# EAGLE library part ICE40 (library TImingBoardPartLibrary)
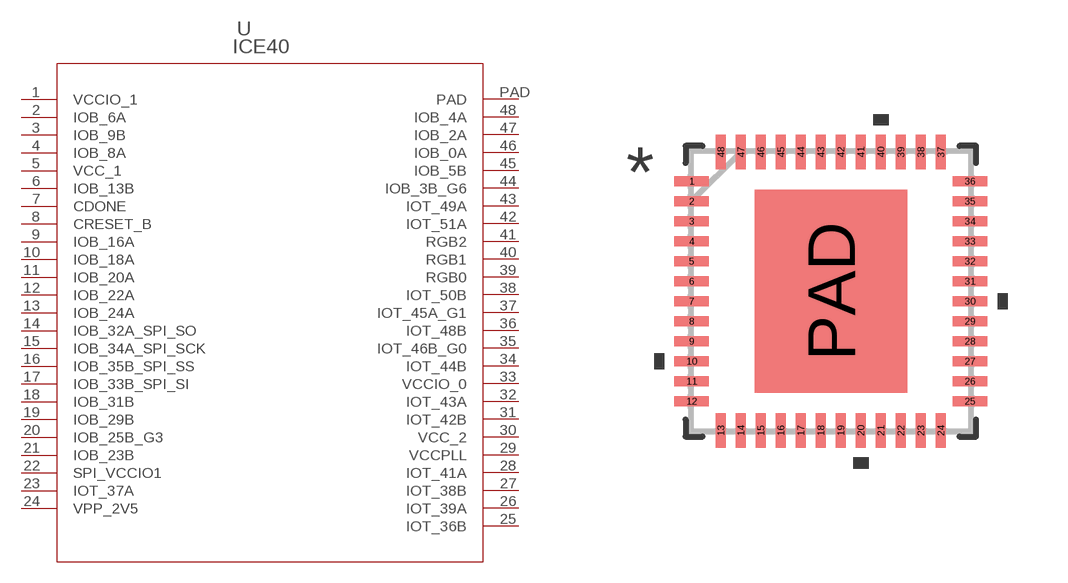
[diagram p1: symbol with the pads of ICE40-QFN; footprint ICE40-QFN]

Designator prefix -

## ICE40 (LCSC: C2678152)  [ICE40-QFN]
1  VCCIO_1  pwr
2  IOB_6A
3  IOB_9B
4  IOB_8A
5  VCC_1  pwr
6  IOB_13B
7  CDONE
8  CRESET_B  pas
9  IOB_16A
10  IOB_18A
11  IOB_20A
12  IOB_22A
13  IOB_24A
14  IOB_32A_SPI_SO
15  IOB_34A_SPI_SCK
16  IOB_35B_SPI_SS
17  IOB_33B_SPI_SI
18  IOB_31B
19  IOB_29B
20  IOB_25B_G3
21  IOB_23B
22  SPI_VCCIO1  pwr
23  IOT_37A
24  VPP_2V5  pwr
25  IOT_36B
26  IOT_39A
27  IOT_38B
28  IOT_41A
29  VCCPLL  pwr
30  VCC_2  pwr
31  IOT_42B
32  IOT_43A
33  VCCIO_0  pwr
34  IOT_44B
35  IOT_46B_G0
36  IOT_48B
37  IOT_45A_G1
38  IOT_50B
39  RGB0
40  RGB1
41  RGB2
42  IOT_51A
43  IOT_49A
44  IOB_3B_G6
45  IOB_5B
46  IOB_0A
47  IOB_2A
48  IOB_4A
PAD  PAD  pas

## Footprint ICE40-QFN (pad centres in mm)
smd 0.864 x 0.254: 1 -3.48,2.75; 2 -3.48,2.25; 3 -3.48,1.75; 4 -3.48,1.25; 5 -3.48,0.75; 6 -3.48,0.25; 7 -3.48,-0.25; 8 -3.48,-0.75; 9 -3.48,-1.25; 10 -3.48,-1.75; 11 -3.48,-2.25; 12 -3.48,-2.75; 25 3.48,-2.75; 26 3.48,-2.25; 27 3.48,-1.75; 28 3.48,-1.25; 29 3.48,-0.75; 30 3.48,-0.25; 31 3.48,0.25; 32 3.48,0.75; 33 3.48,1.25; 34 3.48,1.75; 35 3.48,2.25; 36 3.48,2.75
smd 0.254 x 0.864: 13 -2.75,-3.48; 14 -2.25,-3.48; 15 -1.75,-3.48; 16 -1.25,-3.48; 17 -0.75,-3.48; 18 -0.25,-3.48; 19 0.25,-3.48; 20 0.75,-3.48; 21 1.25,-3.48; 22 1.75,-3.48; 23 2.25,-3.48; 24 2.75,-3.48; 37 2.75,3.48; 38 2.25,3.48; 39 1.75,3.48; 40 1.25,3.48; 41 0.75,3.48; 42 0.25,3.48; 43 -0.25,3.48; 44 -0.75,3.48; 45 -1.25,3.48; 46 -1.75,3.48; 47 -2.25,3.48; 48 -2.75,3.48
smd 3.81 x 5.08: PAD 0,0